# Altium footprint library TFM_Footprints.PcbLib: 24 footprints (part 1 of 2)
Each footprint in its own frame and in the unit in brackets; x right, y up, seen from the top. Pads: shape width x height; smd on the part's side, far side on the other; paste and mask are expansions set on the pad; w line width, h text height; cw(c..) or ccw(c..) is an arc to the next point about the centre after c.
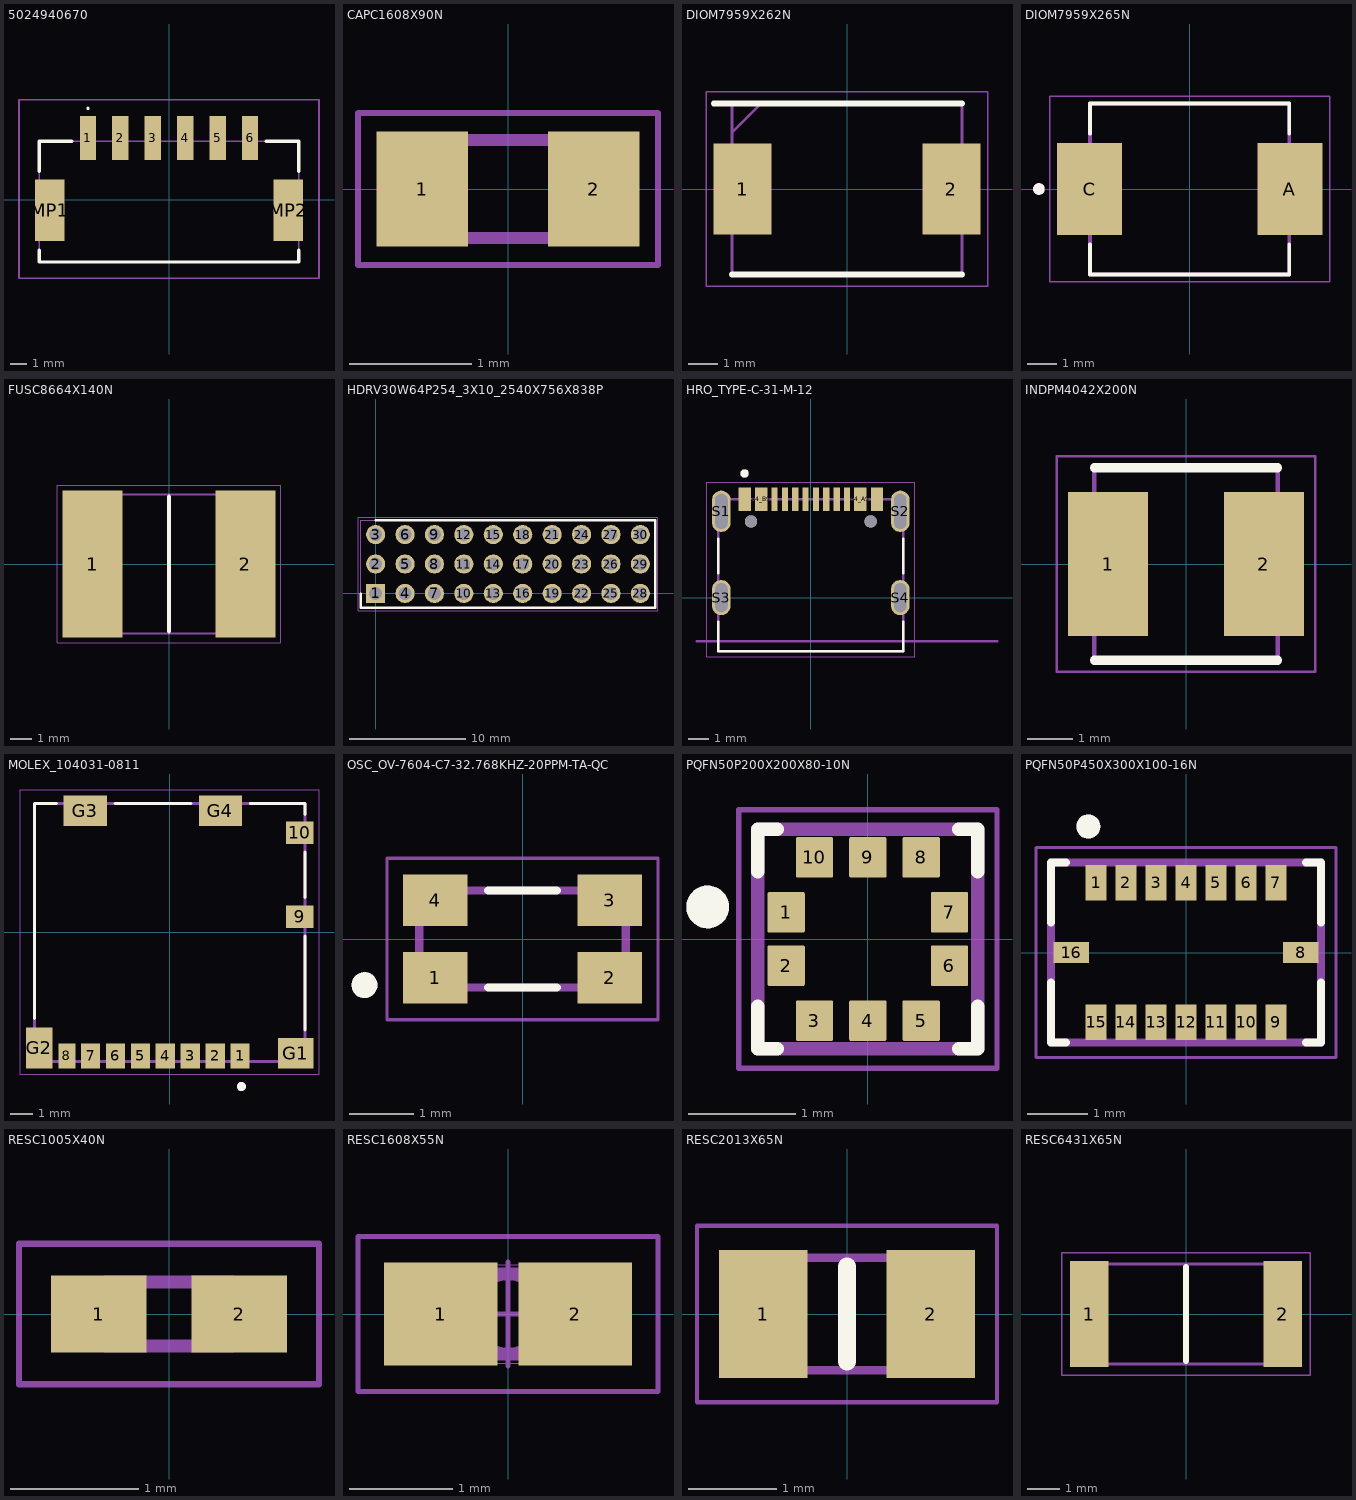
[diagram p0: the footprints below, top view; thin cyan lines are the x and y axes]

## 5024940670 [mm]
pads (8):
  rect 1x2.7 smd: 1(-5,3.825) 2(-3,3.825) 3(-1,3.825) 4(1,3.825) 5(3,3.825) 6(5,3.825)
  rect 1.8x3.8 smd: MP1(-7.35,-0.625) MP2(7.35,-0.625)
Top Overlay:
  lines w0.1: -5,5.6 ccw(c-5,5.65) -5,5.7 ccw(c-5,5.65) -5,5.6
  lines w0.2: -8,-3.08 -8,-3.825 8,-3.825 8,-3.08 ; -8,1.763 -8,3.625 -6,3.625 ; 6,3.625 8,3.625 8,1.763
Mechanical 13:
  lines w0.1: -8,-3.825 -8,3.625 8,3.625 8,-3.825 -8,-3.825
Mechanical 15:
  lines w0.1: -9.25,-4.825 -9.25,6.175 9.25,6.175 9.25,-4.825 -9.25,-4.825
3D body "502494-0670.stp": height 6.9, standoff 0, extent -8,-3.575 8,4.925

## CAPC1608X90N [mm]
pads (2):
  rect 0.75x0.94 smd: 1(-0.7,0) 2(0.7,0)
Mechanical 13:
  lines w0.1: -0.8,-0.4 0.8,-0.4 0.8,0.4 -0.8,0.4 -0.8,-0.4
Mechanical 15:
  lines w0.05: -1.225,-0.62 1.225,-0.62 1.225,0.62 -1.225,0.62 -1.225,-0.62
3D body "GRM188R60J226MEA0D.stp": height 0.8, standoff 0, extent -0.8,-0.45 0.8,0.45

## DIOM7959X262N [mm]
pads (2):
  rect 2x3.15 smd: 1(-3.6,0) 2(3.6,0)
Top Overlay:
  lines w0.2: -4.6,2.952 3.97,2.952 ; -3.97,-2.952 3.97,-2.952
Mechanical 13:
  lines w0.1: -3.97,1.952 -2.97,2.952 ; -3.97,-2.952 -3.97,2.952 3.97,2.952 3.97,-2.952 -3.97,-2.952
Mechanical 15:
  lines w0.05: -4.85,-3.36 -4.85,3.36 4.85,3.36 4.85,-3.36 -4.85,-3.36
3D body "SS34C.stp": height 2.62, standoff 0, extent -3.97,-2.953 3.97,2.953

## DIOM7959X265N [mm]
height 2.65
pads (2):
  rect 2.25x3.18 smd: A(3.455,0) C(-3.455,0)
Top Overlay:
  circle w0.2: c-5.2,0 r0.1
  lines w0.127: -3.437,-1.91 -3.437,-2.95 3.437,-2.95 3.437,-1.91 ; -3.437,1.91 -3.437,2.95 3.437,2.95 3.437,1.91
Mechanical 13:
  circle w0.2: c-5.2,0 r0.1
  lines w0.127: -3.437,-2.95 -3.437,2.95 3.437,2.95 3.437,-2.95 -3.437,-2.95
Mechanical 15:
  lines w0.05: -4.83,-3.2 4.83,-3.2 4.83,3.2 -4.83,3.2 -4.83,-3.2
3D body "step_temp.STEP": height 2.65, standoff 0, extent -3.975,-2.95 3.975,2.95

## FUSC8664X140N [mm]
pads (2):
  rect 2.73x6.71 smd: 1(-3.49,0) 2(3.49,0)
Top Overlay:
  lines w0.2: 0,-3.075 0,3.075
Mechanical 13:
  lines w0.1: -4.325,-3.175 4.325,-3.175 4.325,3.175 -4.325,3.175 -4.325,-3.175
Mechanical 15:
  lines w0.05: -5.105,-3.605 5.105,-3.605 5.105,3.605 -5.105,3.605 -5.105,-3.605
3D body "3425L300_36MR.stp": height 1.4, standoff 0, extent -4.325,-3.175 4.325,3.175

## HDRV30W64P254_3X10_2540X756X838P [mm]
pads (30):
  rect 1.65x1.65 hole 1.1: 1(0,0)
  round 1.65 hole 1.1: 2(0,2.54) 3(0,5.08) 4(2.54,0) 5(2.54,2.54) 6(2.54,5.08) 7(5.08,0) 8(5.08,2.54) 9(5.08,5.08) 10(7.62,0) 11(7.62,2.54) 12(7.62,5.08) 13(10.16,0) 14(10.16,2.54) 15(10.16,5.08) 16(12.7,0) 17(12.7,2.54) 18(12.7,5.08) 19(15.24,0) 20(15.24,2.54) 21(15.24,5.08) 22(17.78,0) 23(17.78,2.54) 24(17.78,5.08) 25(20.32,0) 26(20.32,2.54) 27(20.32,5.08) 28(22.86,0) 29(22.86,2.54) 30(22.86,5.08)
Top Overlay:
  lines w0.2: -1.27,0 -1.27,-1.24 24.13,-1.24 24.13,6.32 0,6.32
Mechanical 13:
  lines w0.1: -1.27,-1.24 24.13,-1.24 24.13,6.32 -1.27,6.32 -1.27,-1.24
Mechanical 15:
  lines w0.05: -1.52,-1.49 24.38,-1.49 24.38,6.57 -1.52,6.57 -1.52,-1.49
3D body "HTSW-110-07-L-T.stp": height 8.38, standoff -2.54, extent -1.27,-1.24 24.13,6.32

## HRO_TYPE-C-31-M-12 [mm]
height 3.26
pads (18):
  rect 0.6x1.14 smd mask+0.05: A1_B12(-3.2,4.75) A4_B9(-2.4,4.75) B1_A12(3.2,4.75) B4_A9(2.4,4.75)
  rect 0.3x1.14 smd mask+0.05: A5(-1.25,4.75) A6(-0.25,4.75) A7(0.25,4.75) A8(1.25,4.75) B5(1.75,4.75) B6(0.75,4.75) B7(-0.75,4.75) B8(-1.75,4.75)
  oval 0.9x2 hole 0.6 slot 1.7 at 90 deg: S1(-4.325,4.17) S2(4.325,4.17)
  oval 0.9x1.7 hole 0.6 slot 1.4 at 90 deg: S3(-4.325,0) S4(4.325,0)
  round 0.6 hole 0.6 unplated: ""(-2.89,3.68) ""(2.89,3.68)
Top Overlay:
  circle w0.2: c-3.2,6 r0.1
  lines w0.127: -4.47,-1.17 -4.47,-2.6 4.47,-2.6 4.47,-1.17 ; -4.47,1.17 -4.47,2.85 ; 4.47,1.17 4.47,2.85
Mechanical 13:
  circle w0.2: c-3.2,6 r0.1
  lines w0.127: -5.5,-2.11 9,-2.11 ; -4.47,-2.6 -4.47,4.75 4.47,4.75 4.47,-2.6 -4.47,-2.6
  text "PCB EDGE" at 5.2,-1.9 h0.61
Mechanical 15:
  lines w0.05: -5.025,-2.85 5.025,-2.85 5.025,5.57 -5.025,5.57 -5.025,-2.85
3D body "step_temp.STEP": height 3.31, standoff -0.99, extent -4.47,-2.6 4.47,5.305

## INDPM4042X200N [mm]
pads (2):
  rect 1.75x3.15 smd: 1(-1.7,0) 2(1.7,0)
Top Overlay:
  lines w0.2: -2,-2.1 2,-2.1 ; -2,2.1 2,2.1
Mechanical 13:
  lines w0.1: -2,-2.1 -2,2.1 2,2.1 2,-2.1 -2,-2.1
Mechanical 15:
  lines w0.05: -2.825,-2.35 -2.825,2.35 2.825,2.35 2.825,-2.35 -2.825,-2.35
3D body "PA4332.222NLT.stp": height 2, standoff 0, extent -2,-2.1 2,2.1

## MOLEX_104031-0811 [mm]
height 1.57
pads (14):
  rect 0.85x1.1 smd: 1(3.105,-5.45) 2(2.005,-5.45) 3(0.905,-5.45) 4(-0.195,-5.45) 5(-1.295,-5.45) 6(-2.395,-5.45) 7(-3.495,-5.45)
  rect 0.75x1.1 smd: 8(-4.545,-5.45)
  rect 1.2x1 smd: 9(5.74,0.7) 10(5.74,4.4)
  rect 1.55x1.35 smd: G1(5.565,-5.325)
  rect 1.17x1.8 smd: G2(-5.755,-5.1)
  rect 1.9x1.35 smd: G3(-3.73,5.375) G4(2.24,5.375)
Top Overlay:
  circle w0.2: c3.168,-6.801 r0.1
  lines w0.127: -5.975,-3.806 -5.975,5.7 -5.003,5.7 ; -2.413,5.7 0.939,5.7 ; 3.556,5.7 5.975,5.7 5.975,5.211 ; 5.975,-4.3 5.975,-0.15 ; 5.975,1.55 5.975,3.55
Mechanical 13:
  circle w0.2: c3.168,-6.801 r0.1
  lines w0.127: -5.975,-5.7 -5.975,5.7 5.975,5.7 5.975,-5.7 -5.975,-5.7
Mechanical 15:
  lines w0.05: -6.59,-6.25 -6.59,6.3 6.59,6.3 6.59,-6.25 -6.59,-6.25
3D body "104031-0811--3DModel-STEP-269445.STEP": height 1.42, standoff 0, extent -5.975,-5.7 5.975,5.7

## OSC_OV-7604-C7-32.768KHZ-20PPM-TA-QC [mm]
height 1
pads (4):
  rect 1x0.8 smd: 1(-1.35,-0.6) 2(1.35,-0.6) 3(1.35,0.6) 4(-1.35,0.6)
Top Overlay:
  circle w0.2: c-2.45,-0.715 r0.1
  lines w0.127: -0.53,-0.75 0.53,-0.75 ; -0.53,0.75 0.53,0.75
Mechanical 13:
  circle w0.2: c-2.45,-0.715 r0.1
  lines w0.127: -1.6,-0.75 1.6,-0.75 1.6,0.75 -1.6,0.75 -1.6,-0.75
Mechanical 15:
  lines w0.05: -2.1,-1.25 -2.1,1.25 2.1,1.25 2.1,-1.25 -2.1,-1.25
3D body "OV-7604-C7-32.768KHZ-20PPM-TA-QC.STEP": height 1, standoff 0, extent -1.6,-0.75 1.6,0.75

## PQFN50P200X200X80-10N [mm]
pads (10):
  rrect9% 0.35x0.38 smd: 1(-0.765,0.25) 2(-0.765,-0.25) 3(-0.5,-0.765) 4(0,-0.765) 5(0.5,-0.765) 6(0.765,-0.25) 7(0.765,0.25) 8(0.5,0.765) 9(0,0.765) 10(-0.5,0.765)
Top Overlay:
  circle w0.2: c-1.5,0.3 r0.1
  lines w0.127: -1.03,-0.63 -1.03,-1.03 -0.85,-1.03 ; -1.03,0.63 -1.03,1.03 -0.85,1.03 ; 0.85,-1.03 1.03,-1.03 1.03,-0.63 ; 0.85,1.03 1.03,1.03 1.03,0.63
Mechanical 13:
  circle w0.2: c-1.5,0.3 r0.1
  lines w0.127: -1.03,-1.03 1.03,-1.03 1.03,1.03 -1.03,1.03 -1.03,-1.03
Mechanical 15:
  lines w0.05: -1.21,-1.21 1.21,-1.21 1.21,1.21 -1.21,1.21 -1.21,-1.21
3D body "BMP388--3DModel-STEP-56544.STEP": height 0.8, standoff 0, extent -1,-1 1,1

## PQFN50P450X300X100-16N [mm]
pads (16):
  rect 0.35x0.59 smd: 1(-1.5,1.165) 2(-1,1.165) 3(-0.5,1.165) 4(0,1.165) 5(0.5,1.165) 6(1,1.165) 7(1.5,1.165) 9(1.5,-1.165) 10(1,-1.165) 11(0.5,-1.165) 12(0,-1.165) 13(-0.5,-1.165) 14(-1,-1.165) 15(-1.5,-1.165)
  rect 0.59x0.35 smd: 8(1.915,0) 16(-1.915,0)
Top Overlay:
  circle w0.2: c-1.629,2.1 r0.1
  lines w0.127: -2.25,-0.5 -2.25,-1.5 -2,-1.5 ; -2.25,0.5 -2.25,1.5 -2,1.5 ; 2,-1.5 2.25,-1.5 2.25,-0.5 ; 2,1.5 2.25,1.5 2.25,0.5
Mechanical 13:
  circle w0.2: c-1.629,2.1 r0.1
  lines w0.127: -2.25,-1.5 -2.25,1.5 2.25,1.5 2.25,-1.5 -2.25,-1.5
Mechanical 15:
  lines w0.05: -2.5,-1.75 -2.5,1.75 2.5,1.75 2.5,-1.75 -2.5,-1.75
3D body "BMI088--3DModel-STEP-56544.STEP": height 1, standoff 0, extent -2.25,-1.5 2.25,1.5

## RESC1005X40N [mm]
pads (2):
  rect 0.75x0.6 smd: 1(-0.55,0) 2(0.55,0)
Mechanical 13:
  lines w0.1: -0.5,-0.25 -0.5,0.25 0.5,0.25 0.5,-0.25 -0.5,-0.25
Mechanical 15:
  lines w0.05: -1.175,-0.55 -1.175,0.55 1.175,0.55 1.175,-0.55 -1.175,-0.55
3D body "0402WGF1002TCE.stp": height 0.4, standoff 0, extent -0.5,-0.25 0.5,0.25

## RESC1608X55N [mm]
pads (2):
  rect 1.1x1 smd: 1(-0.65,0) 2(0.65,0)
Mechanical 13:
  lines w0.1: -0.8,-0.4 -0.8,0.4 0.8,0.4 0.8,-0.4 -0.8,-0.4
Mechanical 15:
  circle w0.05: c0,0 r0.35
  lines w0.001: -0.85,-0.475 -0.85,0.475 0.85,0.475 0.85,-0.475 -0.85,-0.475
  lines w0.05: -0.5,0 0.5,0 ; 0,-0.5 0,0.5 ; -1.45,-0.75 -1.45,0.75 1.45,0.75 1.45,-0.75 -1.45,-0.75
3D body "RC0603FR-07360KL.stp": height 0.55, standoff 0, extent -0.8,-0.4 0.8,0.4

## RESC2013X65N [mm]
pads (2):
  rect 1x1.45 smd: 1(-0.95,0) 2(0.95,0)
Top Overlay:
  lines w0.2: 0,-0.538 0,0.538
Mechanical 13:
  lines w0.1: -1,-0.638 1,-0.638 1,0.638 -1,0.638 -1,-0.638
Mechanical 15:
  lines w0.05: -1.7,-1 1.7,-1 1.7,1 -1.7,1 -1.7,-1
3D body "0805W8F1003T5E.stp": height 0.65, standoff 0, extent -1,-0.637 1,0.637

## RESC6431X65N [mm]
pads (2):
  rect 1.2x3.3 smd: 1(-3,0) 2(3,0)
Top Overlay:
  lines w0.2: 0,-1.45 0,1.45
Mechanical 13:
  lines w0.1: -3.175,-1.55 -3.175,1.55 3.175,1.55 3.175,-1.55 -3.175,-1.55
Mechanical 15:
  lines w0.05: -3.85,-1.9 -3.85,1.9 3.85,1.9 3.85,-1.9 -3.85,-1.9
3D body "AC2512JK-070RL.stp": height 0.65, standoff 0, extent -3.175,-1.55 3.175,1.55